# EAGLE library part 4DB-P108-06 (library 4DB-P108-06)
Dual Barrier, Printed Circuit Pin, Wire-to-Board, 6 Position, 8.26 mm [.325 in] Centerline, 1 Row, Buchanan 4DB Series, Barrier Strips Source: Datasheet <https://www.te.com/commerce/DocumentDelivery/DDEController?Action=srchrtrv&DocNm=1-1773458-2_BARRIER_STRIPS_QRG&DocType=Data Sheet&DocLang=English&PartCntxt=2-1437667-9&DocFormat=pdf>
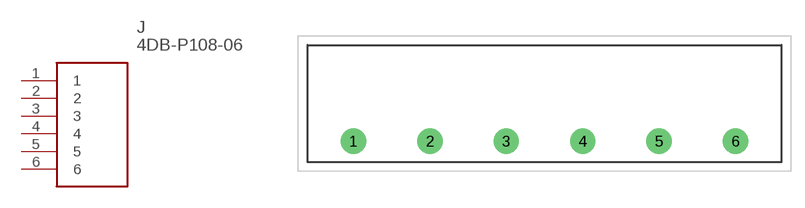
[diagram p0: symbol with the pads of 4DBP10806; footprint 4DBP10806]

Designator prefix J

## 4DB-P108-06 (Description: Dual Barrier, Printed Circuit Pin, Wire-to-Board, 6 Position, 8.26 mm [.325 in] Centerline, 1 Row, Buchanan 4DB Series, Barrier Strips; Height: 13.716mm; Manufacturer_Name: TE Connectivity; Manufacturer_Part_Number: 4DB-P108-06; Mouser_Part_Number: N/A; Mouser_Price-Stock: https://www.mouser.co.uk/ProductDetail/TE-Connectivity/4DB-P108-06?qs=JZD3Rbs9Xzm1xbyNfnCHaQ%3D%3D)  [4DBP10806]
1  1
2  2
3  3
4  4
5  5
6  6

## Footprint 4DBP10806 (pad centres in mm)
4DB-P108-06-2
drill 1.829 pad 2.743: 1 0,0; 2 8.255,0; 3 16.51,0; 4 24.765,0; 5 33.02,0; 6 41.275,0